# Altium schematic symbol library B38.SchLib: 4 symbols
Pins are listed as number, name and electrical type; pins without a type are passive.

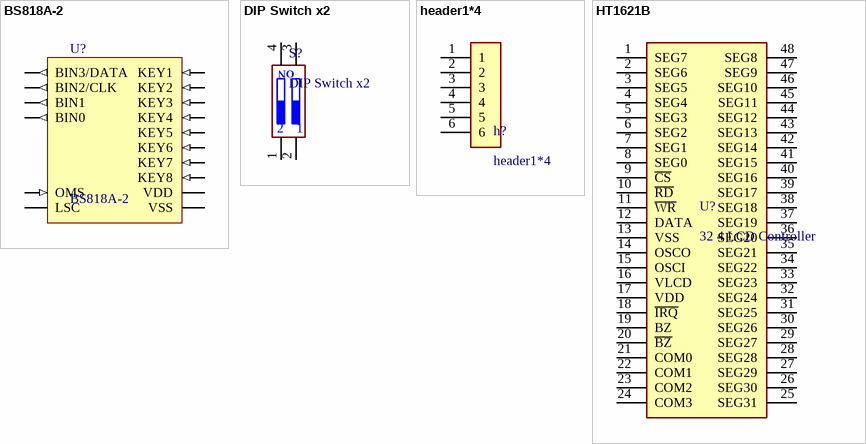
[diagram p0: symbols BS818A-2  to HT1621B]

## BS818A-2 
designator U?, comment BS818A-2
HOLTEK_Touch key input pin, Operating voltage: 2.2V~5.5V - 8 Key input - Serial output
footprint NSOP-16
footprint SO16
pins: 1 KEY1 (in), 2 KEY2 (in), 3 KEY3 (in), 4 KEY4 (in), 5 KEY5 (in), 6 KEY6 (in), 7 KEY7 (in), 8 KEY8 (in), 9 VSS (power), 10 VDD (power), 11 LSC, 12 OMS (in), 13 BIN0 (out), 14 BIN1 (out), 15 BIN2/CLK (out), 16 BIN3/DATA (out)

## DIP Switch x2
designator S?
footprint DIP-SWITCH
footprint GDS02s-2.54 smd
pins: 1, 2, 3, 4
text: ON

## header1*4
designator h?
footprint header-2.54mm
pins: 1, 2, 3, 4, 5, 6

## HT1621B
designator U?, comment 32 4 LCD Controller
Integrated Circuit; Manufacturer_Name: Holtek; Manufacturer_Part_Number: HT1621B(48SSOP); Height: 2.769mm
footprint SOP64P1035X277-48N
pins: 1 SEG7, 2 SEG6, 3 SEG5, 4 SEG4, 5 SEG3, 6 SEG2, 7 SEG1, 8 SEG0, 9 ~{CS}, 10 ~{RD}, 11 ~{WR}, 12 DATA, 13 VSS, 14 OSCO, 15 OSCI, 16 VLCD, 17 VDD, 18 ~{IRQ}, 19 BZ, 20 ~{BZ}, 21 COM0, 22 COM1, 23 COM2, 24 COM3, 25 SEG31, 26 SEG30, 27 SEG29, 28 SEG28, 29 SEG27, 30 SEG26, 31 SEG25, 32 SEG24, 33 SEG23, 34 SEG22, 35 SEG21, 36 SEG20, 37 SEG19, 38 SEG18, 39 SEG17, 40 SEG16, 41 SEG15, 42 SEG14, 43 SEG13, 44 SEG12, 45 SEG11, 46 SEG10, 47 SEG9, 48 SEG8